# EAGLE library part SJ_CUST1 (library CurrentProbe)
Custom solder jumper, 5 to 2.
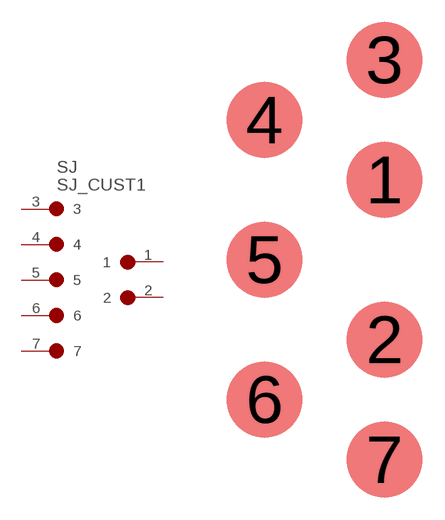
[diagram p4: symbol with the pads of SJ_CUST1W; footprint SJ_CUST1W]

Designator prefix SJ

## SJ_CUST1W  [SJ_CUST1W]
1  1
2  2
3  3
4  4
5  5
6  6
7  7

## Footprint SJ_CUST1W (pad centres in mm)
Custom solder jumper, 5 to 2.
smd 1.905 x 1.905: 1 1,2; 2 1,-2; 3 1,5; 4 -2,3.5; 5 -2,0; 6 -2,-3.5; 7 1,-5